# Altium footprint library PCB - CONNECTOR - SAMTEC IPL1-106-02-L-D-K.PCBLIB: 1 footprints
Each footprint in its own frame and in the unit in brackets; x right, y up, seen from the top. Pads: shape width x height; smd on the part's side, far side on the other; paste and mask are expansions set on the pad; w line width, h text height; cw(c..) or ccw(c..) is an arc to the next point about the centre after c.
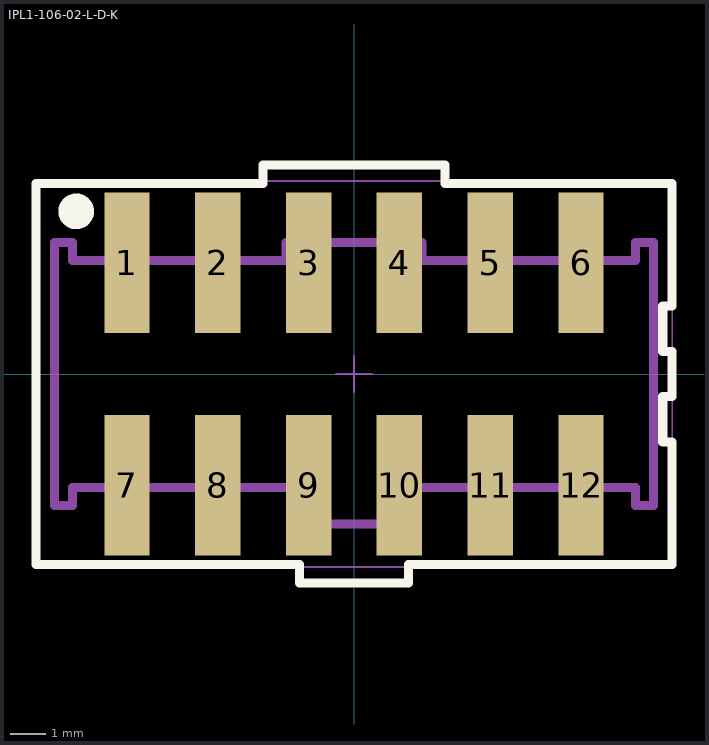
[diagram p0: the footprint, top view; thin cyan lines are the x and y axes]

## IPL1-106-02-L-D-K [mil]
pads (12):
  rect 50x155 smd mask+2: 1(-250,122.5) 2(-150,122.5) 3(-50,122.5) 4(50,122.5) 5(150,122.5) 6(250,122.5) 7(-250,-122.5) 8(-150,-122.5) 9(-50,-122.5) 10(50,-122.5) 11(150,-122.5) 12(250,-122.5)
Top Overlay:
  circle w19.68: c-305.91,179.13 r9.84
  lines w10: -350,-210 -60,-210 -60,-230 60,-230 60,-210 350,-210 350,-75 340,-75 340,-25 350,-25 350,25 340,25 340,75 350,75 350,210 100,210 100,230 -100,230 -100,210 -350,210 -350,-210
Top Assembly:
  lines w10: -330,-145 -310,-145 -310,-125 -50,-125 -50,-165 50,-165 50,-125 310,-125 310,-145 330,-145 330,145 310,145 310,125 75,125 75,145 -75,145 -75,125 -310,125 -310,145 -330,145 -330,-145
Top Courtyard:
  lines w2: -350.39,-212.6 -350.39,212.6 350.39,212.6 350.39,-212.6 -350.39,-212.6
Top Designator:
  text ".Designator" at -55.12,-35.43 h60
Top Component Center:
  lines w1.97: -19.68,0 19.68,0 ; 0,-19.68 0,19.68
3D body "IPL1-106-02-L-D-K.stp": height 345.59, standoff 0.59, extent -330,-188.5 330,188.5